# Altium integrated library HMC8038.IntLib: 1 symbol
Pins are listed as number, name and electrical type; pins without a type are passive.

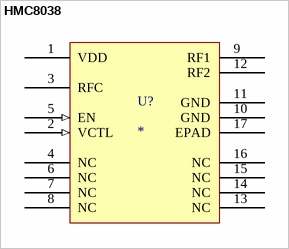
[diagram p0: symbol HMC8038]

## HMC8038
designator U?
High Isolation, Silicon SPDT, Nonreflective Switch, 0.1 GHz to 6.0 GHz
footprint PQFN127P600-8N LFCSP-17 (4 mm × 4 mm Body and 0.90 mm Package Height)
pins: 1 VDD (power), 2 VCTL (in), 3 RFC, 4 NC, 5 EN (in), 6 NC, 7 NC, 8 NC, 9 RF1, 10 GND (power), 11 GND (power), 12 RF2, 13 NC, 14 NC, 15 NC, 16 NC, 17 EPAD